# EAGLE library part I__TL081 (library ..SMD)
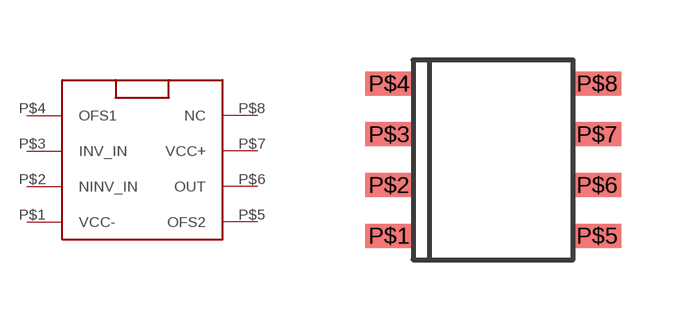
[diagram p367: symbol with the pads of TL081; footprint TL081]

Designator prefix I

## I__TL081  [TL081]
P$1  VCC-
P$2  NINV_IN
P$3  INV_IN
P$4  OFS1
P$5  OFS2
P$6  OUT
P$7  VCC+
P$8  NC

## Footprint TL081 (pad centres in mm)
smd 1.2 x 0.6: P$1 -0.6,0.6; P$2 -0.6,1.87; P$3 -0.6,3.14; P$4 -0.6,4.41; P$5 4.6,0.6; P$6 4.6,1.87; P$7 4.6,3.14; P$8 4.6,4.41